# EAGLE library part XF2*-14? (library con-omron)
OMRON FPC Connector Source : http://www.omron.com/ecb/products/pdf/fpc.pdf
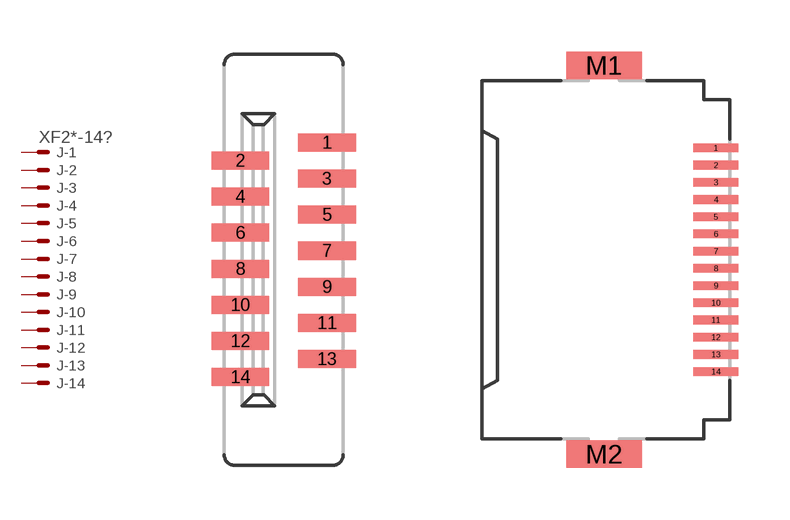
[diagram p21: symbol with the pads of XF2G-1414-11; footprints XF2G-1414-11, XF2H-1415-1LW]

Designator prefix J; gates -1=PV -2=P -3=P -4=P -5=P -6=P -7=P -8=P -9=P -10=P -11=P -12=P -13=P -14=P

## XF2G-1414-11 (MPN: XF2G-1414-11; OC_FARNELL: unknown; OC_NEWARK: 37M0758)  [XF2G-1414-11]
1  -1:MSV  pas
2  -2:MS  pas
3  -3:MS  pas
4  -4:MS  pas
5  -5:MS  pas
6  -6:MS  pas
7  -7:MS  pas
8  -8:MS  pas
9  -9:MS  pas
10  -10:MS  pas
11  -11:MS  pas
12  -12:MS  pas
13  -13:MS  pas
14  -14:MS  pas

## XF2H-1415-1LW (MF: OMRON COMPONENTS USA; MPN: XF2H-1415-1LW; OC_FARNELL: unknown; OC_NEWARK: 12J5137)  [XF2H-1415-1LW]
Pads as for XF2G-1414-11

## XF2J-1424-11 (MPN: XF2J-1424-11; OC_FARNELL: unknown; OC_NEWARK: 37M0824)  [XF2J-1424-11]
Pads as for XF2G-1414-11

## Footprint XF2G-1414-11 (pad centres in mm)
Non-ZIF Type (0.5 mm-pitch) Source : http://www.omron.com/ecb/products/pdf/fpc.pdf
smd 1.6 x 0.5: 1 1.2,3.25; 2 -1.2,2.75; 3 1.2,2.25; 4 -1.2,1.75; 5 1.2,1.25; 6 -1.2,0.75; 7 1.2,0.25; 8 -1.2,-0.25; 9 1.2,-0.75; 10 -1.2,-1.25; 11 1.2,-1.75; 12 -1.2,-2.25; 13 1.2,-2.75; 14 -1.2,-3.25

## Footprint XF2H-1415-1LW (pad centres in mm)
Standard Rotary Backlock Type (0.5 mm-pitch) Source : http://www.omron.com/ecb/products/pdf/fpc.pdf
smd 1.3 x 0.25: 1 3.175,3.25; 2 3.175,2.75; 3 3.175,2.25; 4 3.175,1.75; 5 3.175,1.25; 6 3.175,0.75; 7 3.175,0.25; 8 3.175,-0.25; 9 3.175,-0.75; 10 3.175,-1.25; 11 3.175,-1.75; 12 3.175,-2.25; 13 3.175,-2.75; 14 3.175,-3.25
smd 2.2 x 0.8: M1 -0.075,5.65; M2 -0.075,-5.65

## Footprint XF2J-1424-11 (pad centres in mm)
ZIF Slide-locking Type (0.5 mm-pitch) Standard Source : http://www.omron.com/ecb/products/pdf/fpc.pdf
smd 1.6 x 0.5: 1 1.2,3.25; 2 -1.2,2.75; 3 1.2,2.25; 4 -1.2,1.75; 5 1.2,1.25; 6 -1.2,0.75; 7 1.2,0.25; 8 -1.2,-0.25; 9 1.2,-0.75; 10 -1.2,-1.25; 11 1.2,-1.75; 12 -1.2,-2.25; 13 1.2,-2.75; 14 -1.2,-3.25
smd 2.9 x 1.4: M1 0,4.95; M2 0,-4.95